# Altium footprint library AltiumDesigner.PcbLib: 3 footprints
Each footprint in its own frame and in the unit in brackets; x right, y up, seen from the top. Pads: shape width x height; smd on the part's side, far side on the other; paste and mask are expansions set on the pad; w line width, h text height; cw(c..) or ccw(c..) is an arc to the next point about the centre after c.
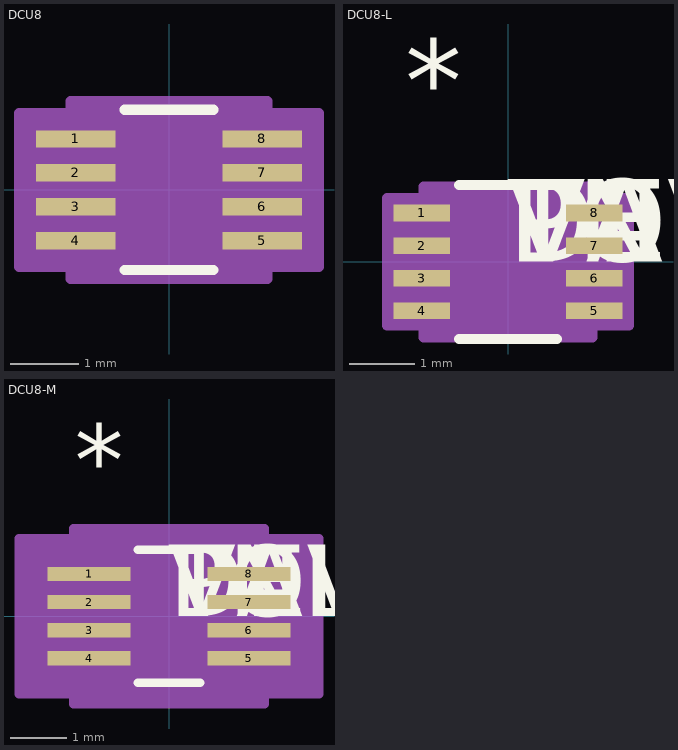
[diagram p0: the footprints below, top view; thin cyan lines are the x and y axes]

## DCU8 [mil]
pads (8):
  rect 46x10 smd: 1(-54,29.53) 2(-54,9.84) 3(-54,-9.84) 4(-54,-29.53) 5(54,-29.53) 6(54,-9.84) 7(54,9.84) 8(54,29.53)
Top Overlay:
  lines w6: -25.68,-46.5 25.68,-46.5 ; -25.68,46.5 25.68,46.5
Mechanical 13:
  lines w0: -12,41.5 ccw(c0,41.5) 12,41.5
Mechanical 15:
  region: -57,-44.53 -87,-44.53 -87,44.53 -57,44.53 -57,51.5 57,51.5 57,44.53 87,44.53 87,-44.53 57,-44.53 57,-51.5 -57,-51.5
  lines w6: -87,-44.53 -57,-44.53 -57,-51.5 57,-51.5 57,-44.53 87,-44.53 87,44.53 57,44.53 57,51.5 -57,51.5 -57,44.53 -87,44.53 -87,-44.53
3D body: height 10, standoff 0, extent 0,0 10,10

## DCU8-L [mil]
pads (8):
  rect 34x10 smd: 1(-52,29.53) 2(-52,9.84) 3(-52,-9.84) 4(-52,-29.53) 5(52,-29.53) 6(52,-9.84) 7(52,9.84) 8(52,29.53)
Top Overlay:
  lines w6: -29.68,-46.5 29.68,-46.5 ; -29.68,46.5 29.68,46.5
  text "*" at -62,84.53 h50
  text "PN" at 0,0 h50
  text "DEV" at 0,0 h50
  text "VAL" at 0,0 h50
  text "TOL" at 0,0 h50
Mechanical 13:
  lines w0: -12,41.5 ccw(c0,41.5) 12,41.5
  text "*" at -32,38.5 h50
  text "RefDes2" at 0,0 h50
Mechanical 15:
  region: -51,-38.53 -73,-38.53 -73,38.53 -51,38.53 -51,45.5 51,45.5 51,38.53 73,38.53 73,-38.53 51,-38.53 51,-45.5 -51,-45.5
  lines w6: -73,-38.53 -73,38.53 -51,38.53 -51,45.5 51,45.5 51,38.53 73,38.53 73,-38.53 51,-38.53 51,-45.5 -51,-45.5 -51,-38.53 -73,-38.53
3D body: height 10, standoff 0, extent 0,0 10,10

## DCU8-M [mil]
pads (8):
  rect 58x10 smd: 1(-56,29.53) 2(-56,9.84) 3(-56,-9.84) 4(-56,-29.53) 5(56,-29.53) 6(56,-9.84) 7(56,9.84) 8(56,29.53)
Top Overlay:
  lines w6: -21.68,-46.5 21.68,-46.5 ; -21.68,46.5 21.68,46.5
  text "*" at -66,84.53 h50
  text "PN" at 0,0 h50
  text "DEV" at 0,0 h50
  text "VAL" at 0,0 h50
  text "TOL" at 0,0 h50
Mechanical 13:
  lines w0: -12,41.5 ccw(c0,41.5) 12,41.5
  text "*" at -32,38.5 h50
  text "RefDes2" at 0,0 h50
Mechanical 15:
  region: -67,-54.53 -105,-54.53 -105,54.53 -67,54.53 -67,61.5 67,61.5 67,54.53 105,54.53 105,-54.53 67,-54.53 67,-61.5 -67,-61.5
  lines w6: -105,-54.53 -105,54.53 -67,54.53 -67,61.5 67,61.5 67,54.53 105,54.53 105,-54.53 67,-54.53 67,-61.5 -67,-61.5 -67,-54.53 -105,-54.53
3D body: height 10, standoff 0, extent 0,0 10,10